# Altium footprint library PCB1.PcbLib: 74 footprints (part 4 of 5)
Each footprint in its own frame and in the unit in brackets; x right, y up, seen from the top. Pads: shape width x height; smd on the part's side, far side on the other; paste and mask are expansions set on the pad; w line width, h text height; cw(c..) or ccw(c..) is an arc to the next point about the centre after c.
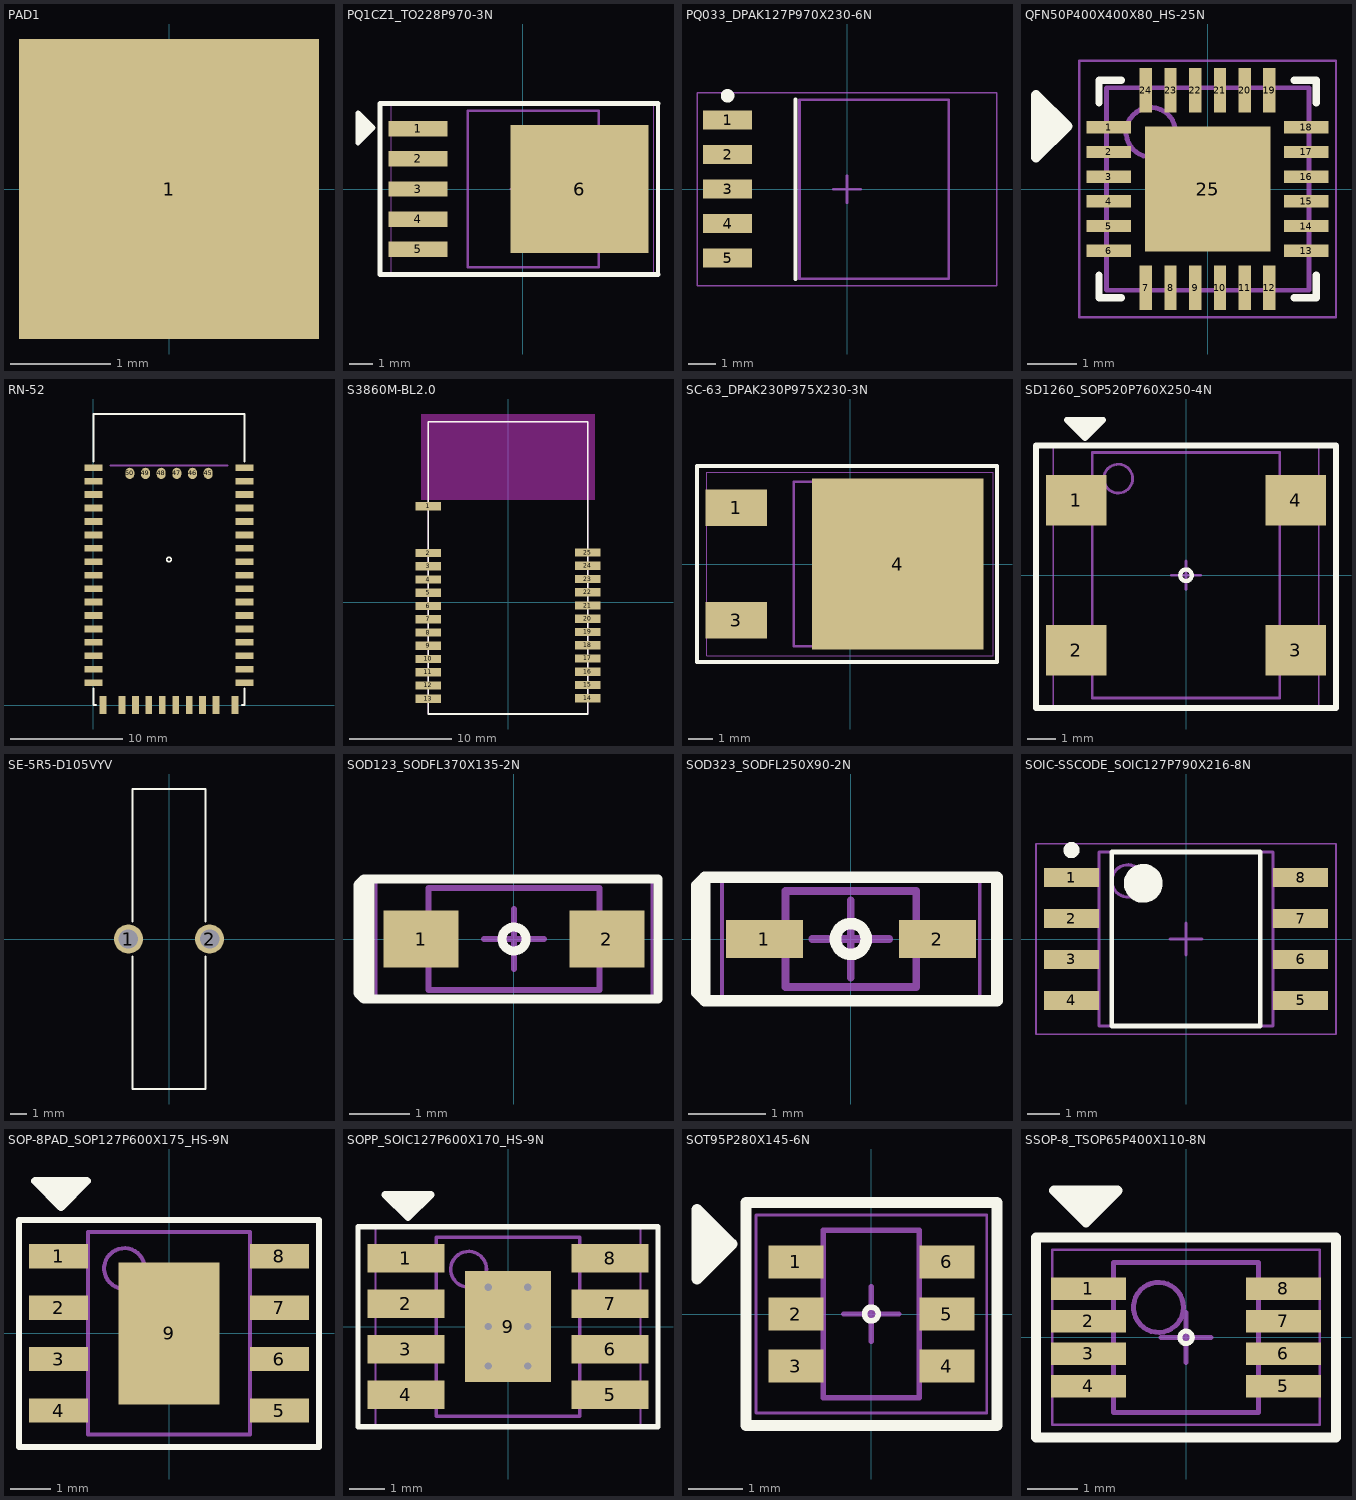
[diagram p3: the footprints below, top view; thin cyan lines are the x and y axes]

## PAD1 [mm]
pads (1):
  rect 3x3 smd: 1(0,0)

## PQ1CZ1_TO228P970-3N [mm]
height 2.3
pads (6):
  rect 2.5x0.65 smd: 1(-4.4,2.54) 2(-4.4,1.27) 3(-4.4,0) 4(-4.4,-1.27) 5(-4.4,-2.54)
  rect 5.8x5.4 smd: 6(2.4,0)
Top Overlay:
  lines w0.15: 5.7,-3.6 5.7,-2 5.7,3.6
  lines w0.2: -6.8,2.827 -6.8,2.7 -6.673,2.7 ; 5.7,-3.6 -6,-3.6 -6,3.6 5.7,3.6 ; -6.927,2.573 -6.736,2.382 -6.546,2.573 ; -6.927,2.573 -6.927,2.192 -6.546,2.573 ; -6.927,2.573 -6.927,2.827 -6.927,2.954 -6.546,2.573 ; -6.927,2.573 -6.292,2.573 ; -6.673,2.7 -6.673,2.636 -6.673,2.7 ; -6.673,2.7 -6.546,2.573 ; -6.292,2.573 -6.927,1.938 -6.927,3.208 -6.292,2.573
Mechanical 13:
  lines w0.1: -2.3,-3.3 3.2,-3.3 3.2,3.3 -2.3,3.3 -2.3,-3.3
Mechanical 15:
  lines w0.05: -5.525,-3.55 5.525,-3.55 5.525,3.55 -5.525,3.55 -5.525,-3.55
  lines w0.1: -0.5,0 0.5,0 ; 0,-0.5 0,0.5
3D body "PQ1CZ1_TO228P970-3N.step": height 2.55, standoff 0, extent -5,-3.3 4.7,3.3

## PQ033_DPAK127P970X230-6N [mm] "D-PAK, 6-Pads, Body 5.85x6.66mm (max), IPC Medium Density"
height 2.3
pads (5):
  rect 1.8x0.7 smd: 1(-4.4,2.54) 2(-4.4,1.27) 3(-4.4,0) 4(-4.4,-1.27) 5(-4.4,-2.54)
Top Overlay:
  circle w0.25: c-4.4,3.44 r0.125
  lines w0.15: -1.9,-3.3 -1.9,3.3
Mechanical 13:
  lines w0.1: -1.75,-3.3 3.75,-3.3 3.75,3.3 -1.75,3.3 -1.75,-3.3
Mechanical 15:
  lines w0.05: -5.525,-3.55 5.525,-3.55 5.525,3.55 -5.525,3.55 -5.525,-3.55
  lines w0.1: -0.5,0 0.5,0 ; 0,-0.5 0,0.5
3D body "PQ033_DPAK127P970X230-6N.step": height 2.8, standoff 0, extent -4.665,-3.3 5.035,3.3

## QFN50P400X400X80_HS-25N [mm] "QFN, 24-Leads, Body 4.00x4.00mm, Pitch 0.50mm, Thermal Pad 2.54x2.54mm, IPC Medium Density"
height 0.8
pads (25):
  rect 0.9x0.25 smd: 1(-2,1.25) 2(-2,0.75) 3(-2,0.25) 4(-2,-0.25) 5(-2,-0.75) 6(-2,-1.25) 13(2,-1.25) 14(2,-0.75) 15(2,-0.25) 16(2,0.25) 17(2,0.75) 18(2,1.25)
  rect 0.25x0.9 smd: 7(-1.25,-2) 8(-0.75,-2) 9(-0.25,-2) 10(0.25,-2) 11(0.75,-2) 12(1.25,-2) 19(1.25,2) 20(0.75,2) 21(0.25,2) 22(-0.25,2) 23(-0.75,2) 24(-1.25,2)
  rect 2.54x2.54 smd: 25(0,0)
Top Overlay:
  lines w0.15: -2.2,-1.75 -2.2,-2.2 -1.75,-2.2 ; -2.2,1.75 -2.2,2.2 -1.75,2.2 ; 1.75,-2.2 2.2,-2.2 2.2,-1.75 ; 1.75,2.2 2.2,2.2 2.2,1.75
  lines w0.2: -3.348,1.524 -3.348,1.397 -3.221,1.397 ; -3.475,1.27 -2.84,1.27 ; -3.475,1.27 -3.475,1.524 -3.475,1.651 -3.094,1.27 ; -3.475,1.27 -3.475,0.889 -3.094,1.27 ; -3.475,1.27 -3.285,1.079 -3.094,1.27 ; -3.221,1.397 -3.094,1.27 ; -3.221,1.397 -3.221,1.333 -3.221,1.397 ; -2.84,1.27 -3.475,1.905 -3.475,0.635 -2.84,1.27
Mechanical 13:
  circle w0.1: c-1.15,1.15 r0.5
  lines w0.1: -2.05,-2.05 2.05,-2.05 2.05,2.05 -2.05,2.05 -2.05,-2.05
Mechanical 15:
  lines w0.05: -2.6,-2.6 2.6,-2.6 2.6,2.6 -2.6,2.6 -2.6,-2.6
  lines w0.1: -0.5,0 0.5,0 ; 0,-0.5 0,0.5
3D body "QFN50P400X400X80_HS-25N.step": height 0.8, standoff 0, extent -2.1,-2.1 2.1,2.1

## RN-52 [mm]
height 2.7
pads (50):
  rect 1.6x0.6 smd paste-0.05 mask+0.1: 1(0,21.2) 2(0,20) 3(0,18.8) 4(0,17.6) 5(0,16.4) 6(0,15.2) 7(0,14) 8(0,12.8) 9(0,11.6) 10(0,10.4) 11(0,9.2) 12(0,8) 13(0,6.8) 14(0,5.6) 15(0,4.4) 16(0,3.2) 17(0,2) 28(13.5,2) 29(13.5,3.2) 30(13.5,4.4) 31(13.5,5.6) 32(13.5,6.8) 33(13.5,8) 34(13.5,9.2) 35(13.5,10.4) 36(13.5,11.6) 37(13.5,12.8) 38(13.5,14) 39(13.5,15.2) 40(13.5,16.4) 41(13.5,17.6) 42(13.5,18.8) 43(13.5,20) 44(13.5,21.2)
  rect 0.6x1.6 smd paste-0.05 mask+0.1: 18(0.85,0) 19(2.55,0) 20(3.75,0) 21(4.95,0) 22(6.15,0) 23(7.35,0) 24(8.55,0) 25(9.75,0) 26(10.95,0) 27(12.65,0)
  oval 0.8x1 smd paste-0.05 mask+0.1: 45(10.25,20.7) 46(8.85,20.7) 47(7.45,20.7) 48(6.05,20.7) 49(4.65,20.7) 50(3.25,20.7)
Top Overlay:
  circle w0.15: c6.75,13 r0.2
  lines w0.15: 0,1.5 0,0 0.25,0 ; 0,21.75 0,26 13.5,26 13.5,21.75 ; 13.25,0 13.5,0 13.5,1.5
Mechanical 15:
  lines w0.15: 1.5,21.4 12,21.4

## S3860M-BL2.0 [mm] "Bluetooth 2.0, AVRCP audio"
pads (25):
  rect 2.5x0.8 smd paste-0.05 mask+0.1: 1(-7.85,9.45) 2(-7.85,4.85) 3(-7.85,3.55) 4(-7.85,2.25) 5(-7.85,0.95) 6(-7.85,-0.35) 7(-7.85,-1.65) 8(-7.85,-2.95) 9(-7.85,-4.25) 10(-7.85,-5.55) 11(-7.85,-6.85) 12(-7.85,-8.15) 13(-7.85,-9.45) 14(7.85,-9.4) 15(7.85,-8.1) 16(7.85,-6.8) 17(7.85,-5.5) 18(7.85,-4.2) 19(7.85,-2.9) 20(7.85,-1.6) 21(7.85,-0.3) 22(7.85,1) 23(7.85,2.3) 24(7.85,3.6) 25(7.85,4.9)
Top Overlay:
  lines w0.15: -7.85,-10.95 -7.85,17.75 7.85,17.75 7.85,-10.95 -7.85,-10.95
Keep-Out Layer:
  pour cut-out: -8.5,10.1 8.5,10.1 8.5,18.5 -8.5,18.5
Mechanical 15:
  lines w0.15: -7.85,-10.95 7.85,-10.95 7.85,17.75 -7.85,17.75 -7.85,-10.95

## SC-63_DPAK230P975X230-3N [mm] "D-PAK, 3-Pads, Body 5.85x6.71mm (max), IPC Medium Density"
height 2.3
pads (3):
  rect 2.5x1.5 smd: 1(-4.65,2.3) 3(-4.65,-2.3)
  rect 7x7 smd: 4(1.95,0)
Top Overlay:
  lines w0.15: -6.25,-4 6,-4 6,4 -6.25,4 -6.25,-4
Mechanical 13:
  lines w0.1: -2.3,-3.35 3.2,-3.35 3.2,3.35 -2.3,3.35 -2.3,-3.35
Mechanical 15:
  lines w0.05: -5.85,-3.75 5.85,-3.75 5.85,3.75 -5.85,3.75 -5.85,-3.75
  lines w0.1: -0.5,0 0.5,0 ; 0,-0.5 0,0.5
3D body "SC-63_DPAK230P975X230-3N.step": height 2.55, standoff 0, extent -4.2,-3.35 5.55,3.35

## SD1260_SOP520P760X250-4N [mm] "SOP, 4-Leads, Body 8.28x6.35mm, Pitch 5.20mm, IPC Medium Density"
height 2.5
pads (4):
  rect 2.1x1.75 smd: 1(-3.8,2.6) 2(-3.8,-2.6) 3(3.8,-2.6) 4(3.8,2.6)
Top Overlay:
  circle w0.15: c0,0 r0.2
  lines w0.2: -3.246,5.254 -3.373,5.254 -3.373,5.127 ; -3.5,4.746 -2.865,5.381 -4.135,5.381 -3.5,4.746 ; -3.5,4.746 -3.5,5.381 ; -3.5,5 -3.119,5.381 -3.246,5.381 -3.5,5.381 ; -3.5,5 -3.881,5.381 -3.5,5.381 ; -3.5,5 -3.691,5.191 -3.5,5.381 ; -3.5,5 -3.373,5.127 ; -3.373,5.127 -3.437,5.127 -3.373,5.127 ; -5.2,-4.6 5.2,-4.6 5.2,4.5 -5.2,4.5 -5.2,-4.6
Mechanical 13:
  circle w0.1: c-2.35,3.35 r0.5
  lines w0.1: -3.25,-4.25 3.25,-4.25 3.25,4.25 -3.25,4.25 -3.25,-4.25
Mechanical 15:
  lines w0.05: -4.6,-4.55 4.6,-4.55 4.6,4.55 -4.6,4.55 -4.6,-4.55
  lines w0.1: -0.5,0 0.5,0 ; 0,-0.5 0,0.5
3D body "SD1260_SOP520P760X250-4N.step": height 2.5, standoff 0.02, extent -3.759,-4.25 3.759,4.25

## SE-5R5-D105VYV [mm]
pads (2):
  round 1.8 hole 1.2 paste-0.05 mask+0.1: 1(-2.5,0) 2(2.5,0)
Top Overlay:
  lines w0.15: -2.25,-1.1 -2.25,-9.25 2.25,-9.25 2.25,-1.1 ; -2.25,1.1 -2.25,9.25 2.25,9.25 2.25,1.1

## SOD123_SODFL370X135-2N [mm] "SODFL, 2-Leads, Body 1.55x3.70mm, IPC Medium Density"
height 1.35
pads (2):
  rect 1.25x0.95 smd: 1(-1.55,0) 2(1.55,0)
Top Overlay:
  circle w0.15: c0,0 r0.2
  lines w0.15: -2.6,0.8 -2.6,0.9 -2.5,1 ; -2.6,0.8 -2.6,-0.9 -2.5,-1 ; -2.6,0.8 -2.5,0.9 -2.5,1 ; -2.5,-1 -2.5,1 ; -2.5,-1 -2.4,-1 ; -2.5,-1 -2.5,1 ; -2.5,1 -2.4,1 ; -2.5,1 -2.5,-0.9 -2.4,-1 ; -2.4,-1 -2.4,1 ; -2.4,-1 2.4,-1 2.4,1 -2.4,1
Mechanical 13:
  lines w0.1: -1.425,-0.85 -1.425,0.85 1.425,0.85 1.425,-0.85 -1.425,-0.85
Mechanical 15:
  lines w0.05: -2.3,-1 -2.3,1 2.3,1 2.3,-1 -2.3,-1
  lines w0.1: -0.5,0 0.5,0 ; 0,-0.5 0,0.5
3D body "SOD123_SODFL370X135-2N.step": height 1.35, standoff 0, extent -1.85,-0.85 1.85,0.85

## SOD323_SODFL250X90-2N [mm] "SODFL, 2-Leads, Body 1.25x2.50mm, IPC Medium Density"
height 0.9
pads (2):
  rect 1x0.5 smd: 1(-1.125,0) 2(1.125,0)
Top Overlay:
  circle w0.15: c0,0 r0.2
  lines w0.15: -1.9,-0.8 1.9,-0.8 1.9,0.8 -1.9,0.8 ; -1.9,-0.8 -1.9,0.8 ; -1.9,-0.8 -2,-0.7 -2,0.7 -1.9,0.8
Mechanical 13:
  lines w0.1: -0.85,-0.625 -0.85,0.625 0.85,0.625 0.85,-0.625 -0.85,-0.625
Mechanical 15:
  lines w0.05: -1.675,-0.8 -1.675,0.8 1.675,0.8 1.675,-0.8 -1.675,-0.8
  lines w0.1: -0.5,0 0.5,0 ; 0,-0.5 0,0.5
3D body "SOD323_SODFL250X90-2N.step": height 0.9, standoff 0, extent -1.25,-0.625 1.25,0.625

## SOIC-SSCODE_SOIC127P790X216-8N [mm] "SOIC, 8-Leads, Body 5.28x5.28mm, Pitch 1.27mm, IPC Medium Density"
height 2.16
pads (8):
  rect 1.7x0.6 smd: 1(-3.55,1.905) 2(-3.55,0.635) 3(-3.55,-0.635) 4(-3.55,-1.905) 5(3.55,-1.905) 6(3.55,-0.635) 7(3.55,0.635) 8(3.55,1.905)
Top Overlay:
  circle w0.25: c-3.55,2.755 r0.125
  circle w0.6: c-1.325,1.725 r0.3
  lines w0.15: -2.3,-2.7 -2.3,2.7 2.3,2.7 2.3,-2.7 -2.3,-2.7
Mechanical 13:
  circle w0.1: c-1.8,1.8 r0.5
  lines w0.1: -2.7,-2.7 -2.7,2.7 2.7,2.7 2.7,-2.7 -2.7,-2.7
Mechanical 15:
  lines w0.05: -4.65,-2.95 -4.65,2.95 4.65,2.95 4.65,-2.95 -4.65,-2.95
  lines w0.1: -0.5,0 0.5,0 ; 0,-0.5 0,0.5
3D body "SOIC-SSCODE_SOIC127P790X216-8N.step": height 2.16, standoff 0, extent -3.95,-2.7 3.95,2.7

## SOP-8PAD_SOP127P600X175_HS-9N [mm] "SOP, 8-Leads, Body 4.90x3.91mm, Pitch 1.27mm, Thermal Pad 3.50x2.50mm, IPC Medium Density"
height 1.76
pads (9):
  rect 1.45x0.6 smd: 1(-2.725,1.905) 2(-2.725,0.635) 3(-2.725,-0.635) 4(-2.725,-1.905) 5(2.725,-1.905) 6(2.725,-0.635) 7(2.725,0.635) 8(2.725,1.905)
  rect 2.5x3.5 smd: 9(0,0)
Top Overlay:
  lines w0.15: -3.7,-2.8 -3.7,2.8 -1.6,2.8 1.6,2.8 3.7,2.8 3.7,-2.8 -3.7,-2.8
  lines w0.2: -2.409,3.627 -2.536,3.627 -2.536,3.5 ; -2.663,3.119 -2.028,3.754 -3.298,3.754 -2.663,3.119 ; -2.663,3.119 -2.663,3.754 ; -2.663,3.373 -2.282,3.754 -2.409,3.754 -2.663,3.754 ; -2.663,3.373 -3.044,3.754 -2.663,3.754 ; -2.663,3.373 -2.854,3.564 -2.663,3.754 ; -2.663,3.373 -2.536,3.5 ; -2.536,3.5 -2.6,3.5 -2.536,3.5
Mechanical 13:
  circle w0.1: c-1.1,1.6 r0.5
  lines w0.1: -2,-2.5 -2,2.5 2,2.5 2,-2.5 -2,-2.5
Mechanical 15:
  lines w0.05: -3.7,-2.8 -3.7,2.8 3.7,2.8 3.7,-2.8 -3.7,-2.8
  lines w0.1: -0.5,0 0.5,0 ; 0,-0.5 0,0.5
3D body "SOP-8PAD_SOP127P600X175_HS-9N.step": height 1.75, standoff 0, extent -2.998,-2.5 2.998,2.5

## SOPP_SOIC127P600X170_HS-9N [mm] "SOIC, 8-Leads, Body 4.90x3.90mm, Pitch 1.27mm, Thermal Pad 3.10x2.40mm, IPC Medium Density"
height 1.7
pads (9):
  rect 2.15x0.8 smd: 1(-2.85,1.905) 2(-2.85,0.635) 3(-2.85,-0.635) 4(-2.85,-1.905) 5(2.85,-1.905) 6(2.85,-0.635) 7(2.85,0.635) 8(2.85,1.905)
  rect 2.4x3.1 smd: 9(0,0)
via -0.55,1.1 diameter 0.5 hole 0.2
via 0.55,1.1 diameter 0.5 hole 0.2
via -0.55,0 diameter 0.5 hole 0.2
via 0.55,0 diameter 0.5 hole 0.2
via -0.55,-1.1 diameter 0.5 hole 0.2
via 0.55,-1.1 diameter 0.5 hole 0.2
Top Overlay:
  lines w0.15: -4.191,-2.794 -4.191,2.794 4.191,2.794 4.191,-2.794 -4.191,-2.794
  lines w0.2: -2.54,3.556 -2.667,3.556 -2.667,3.429 ; -2.794,3.048 -2.159,3.683 -3.429,3.683 -2.794,3.048 ; -2.794,3.048 -2.794,3.683 ; -2.794,3.302 -2.413,3.683 -2.54,3.683 -2.794,3.683 ; -2.794,3.302 -3.175,3.683 -2.794,3.683 ; -2.794,3.302 -2.984,3.492 -2.794,3.683 ; -2.794,3.302 -2.667,3.429 ; -2.667,3.429 -2.73,3.429 -2.667,3.429
Mechanical 13:
  circle w0.1: c-1.1,1.6 r0.5
  lines w0.1: -2,-2.5 -2,2.5 2,2.5 2,-2.5 -2,-2.5
Mechanical 15:
  lines w0.05: -3.7,-2.75 -3.7,2.75 3.7,2.75 3.7,-2.75 -3.7,-2.75
  lines w0.1: -0.5,0 0.5,0 ; 0,-0.5 0,0.5
3D body "SOPP_SOIC127P600X170_HS-9N.step": height 1.7, standoff 0, extent -3,-2.5 3,2.5

## SOT95P280X145-6N [mm] "SOT23, 6-Leads, Body 2.90x2.80mm, Pitch 0.95mm, IPC Medium Density"
height 1.45
pads (6):
  rect 1x0.6 smd: 1(-1.375,0.95) 2(-1.375,0) 3(-1.375,-0.95) 4(1.375,-0.95) 5(1.375,0) 6(1.375,0.95)
Top Overlay:
  circle w0.1: c0,0 r0.125
  lines w0.2: -3.048,1.524 -3.048,1.397 -2.921,1.397 ; -3.175,1.27 -2.54,1.27 ; -3.175,1.27 -3.175,1.524 -3.175,1.651 -2.794,1.27 ; -3.175,1.27 -3.175,0.889 -2.794,1.27 ; -3.175,1.27 -2.984,1.079 -2.794,1.27 ; -2.921,1.397 -2.794,1.27 ; -2.921,1.397 -2.921,1.333 -2.921,1.397 ; -2.54,1.27 -3.175,1.905 -3.175,0.635 -2.54,1.27 ; -2.286,-2.032 2.286,-2.032 2.286,2.032 -2.286,2.032 -2.286,-2.032
Mechanical 13:
  lines w0.1: -0.875,-1.525 -0.875,1.525 0.875,1.525 0.875,-1.525 -0.875,-1.525
Mechanical 15:
  lines w0.05: -2.1,-1.8 -2.1,1.8 2.1,1.8 2.1,-1.8 -2.1,-1.8
  lines w0.1: -0.5,0 0.5,0 ; 0,-0.5 0,0.5
3D body "SOT95P280X145-6N.step": height 1.45, standoff 0, extent -1.5,-1.525 1.5,1.525

## SSOP-8_TSOP65P400X110-8N [mm] "SSOP-8_TSOP, 8-Leads, Body 2.95x2.85mm, Pitch 0.65mm, IPC Medium Density"
height 1.1
pads (8):
  rect 1.5x0.45 smd: 1(-1.95,0.975) 2(-1.95,0.325) 3(-1.95,-0.325) 4(-1.95,-0.975) 5(1.95,-0.975) 6(1.95,-0.325) 7(1.95,0.325) 8(1.95,0.975)
Top Overlay:
  circle w0.1: c0,0 r0.125
  lines w0.2: -1.746,2.808 -1.873,2.808 -1.873,2.681 ; -2,2.3 -1.365,2.935 -2.635,2.935 -2,2.3 ; -2,2.3 -2,2.935 ; -2,2.554 -1.619,2.935 -1.746,2.935 -2,2.935 ; -2,2.554 -2.381,2.935 -2,2.935 ; -2,2.554 -2.191,2.745 -2,2.935 ; -2,2.554 -1.873,2.681 ; -1.873,2.681 -1.937,2.681 -1.873,2.681 ; -3,-2 3,-2 3,2 -3,2 -3,-2
Mechanical 13:
  circle w0.1: c-0.55,0.6 r0.5
  lines w0.1: -1.45,-1.5 1.45,-1.5 1.45,1.5 -1.45,1.5 -1.45,-1.5
Mechanical 15:
  lines w0.05: -2.675,-1.75 2.675,-1.75 2.675,1.75 -2.675,1.75 -2.675,-1.75
  lines w0.1: -0.5,0 0.5,0 ; 0,-0.5 0,0.5
3D body "SSOP-8_TSOP65P400X110-8N.step": height 1.1, standoff 0, extent -2.025,-1.5 2.025,1.5